# Altium integrated library B1931NG--20D001114U1930.IntLib: 1 symbol
Pins are listed as number, name and electrical type; pins without a type are passive.

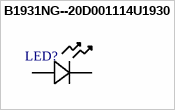
[diagram p0: symbol B1931NG--20D001114U1930]

## B1931NG--20D001114U1930
designator LED?, comment LED GREEN DIFFUSED 0603 SMD  (value not drawn)
Mfr_Name: Harvatek; Type: LED Indication; Supplier 1: Digikey; Supplier Part Number 1: 3147-B1931NG--20D001114U1930CT-ND
footprint LED_B1931NG_HVK
pins: 1 CATHODE, 2 ANODE